# Altium footprint library Trans_Infineon_IRF7821PBF_eec_IPC_A.PcbLib: 1 footprints
Each footprint in its own frame and in the unit in brackets; x right, y up, seen from the top. Pads: shape width x height; smd on the part's side, far side on the other; paste and mask are expansions set on the pad; w line width, h text height; cw(c..) or ccw(c..) is an arc to the next point about the centre after c.
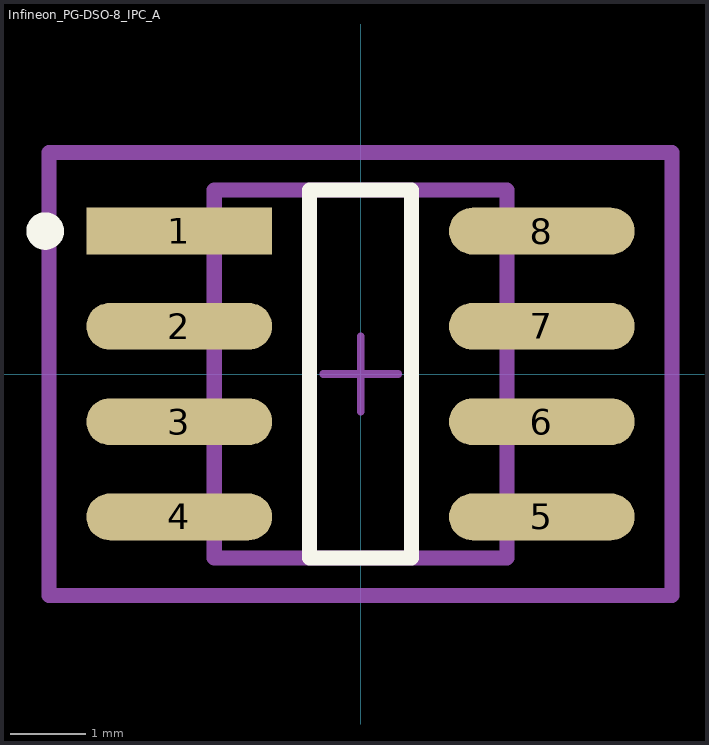
[diagram p0: the footprint, top view; thin cyan lines are the x and y axes]

## Infineon_PG-DSO-8_IPC_A [mil]
pads (8):
  rect 97.4x24.54 smd paste+0 mask+0: 1(-95.12,75)
  rrect100% 97.4x24.54 smd paste+0 mask+0: 2(-95.12,25) 3(-95.12,-25) 4(-95.12,-75) 5(95.12,-75) 6(95.12,-25) 7(95.12,25) 8(95.12,75)
Top Overlay:
  circle w9.84: c-165.48,75 r4.92
  lines w7.87: -26.73,-96.46 26.73,-96.46 26.73,96.46 -26.73,96.46 -26.73,-96.46
Mechanical 10:
  lines w7.87: -163.51,-116.14 163.51,-116.14 163.51,116.14 -163.51,116.14 -163.51,-116.14
  text ".Designator" at 0,7.41 h39.37
Mechanical 12:
  lines w7.87: -76.77,-96.46 76.77,-96.46 76.77,96.46 -76.77,96.46 -76.77,-96.46
Mechanical 15:
  lines w3.94: -19.68,0 19.68,0 ; 0,-19.68 0,19.68
  lines w7.87: -163.51,-116.14 163.51,-116.14 163.51,116.14 -163.51,116.14 -163.51,-116.14
3D body "Trans_Infineon_IRF7821PBF_eec.STEP": height 10, standoff 0, extent -163.51,-116.14 163.51,116.14